# Altium schematic symbol library SCH - PASSIVES - SHUNT- KRL2012E-M-R003-F-T5.SchLib: 1 symbol
Pins are listed as number, name and electrical type; pins without a type are passive.

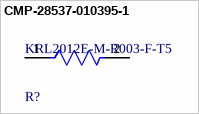
[diagram p0: symbol CMP-28537-010395-1]

## CMP-28537-010395-1
designator R?, comment KRL2012E-M-R003-F-T5
RES 0.003 OHM 1W 0805 WIDE; Power Rating: 660mW; Temperature Coefficient: 50ppm/°C; Resistance: 3mR; Tolerance: 1%; Termination: SMD/SMT; Package Quantity: 1; Case/Package: 2012; Packaging: Tape and Reel; Number of Terminations: 2; Series: KRL; Technology: METAL FOIL; Max Operating Temperature: 155°C; Max Power Dissipation: 1W; RoHS Compliant: Yes; Resistor Type: Metal Foil; Case Code (Imperial): 0805; Features: Automotive AEC-Q200; Min Operating Temperature: -55°C; Height: 0.028inch; Length: 0.049inch; Case Code (Metric): 2012; Width: 1.25mm
footprint FP-KRL2012-MFG (Footprint not found)
footprint KRL-2012-MFG (Footprint not found)
pins: 1, 2